# EAGLE library part DCDC-MINI (library monitor_components)
DC/DC Step-Down Converter 0.8-20V
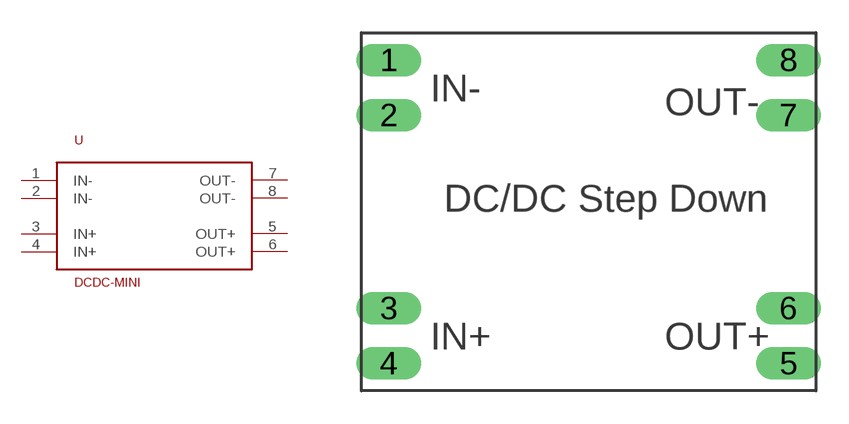
[diagram p1: symbol with the pads of DCDC-MINI; footprint DCDC-MINI]

Designator prefix -

## DCDC-MINI  [DCDC-MINI]
1  IN-  pwr
2  IN-  pwr
3  IN+  pwr
4  IN+  pwr
5  OUT+  pwr
6  OUT+  pwr
7  OUT-  pwr
8  OUT-  pwr

## Footprint DCDC-MINI (pad centres in mm)
DC/DC Step-Down converter 0.8-20V
drill 1 long: 1 -8.89,3.81; 2 -8.89,1.27; 3 -8.89,-7.62; 4 -8.89,-10.16; 5 9.525,-10.16; 6 9.525,-7.62; 7 9.525,1.27; 8 9.525,3.81